# Altium schematic symbol library BOTTOM_BOARD.SchLib: 1 symbol
Pins are listed as number, name and electrical type; pins without a type are passive.

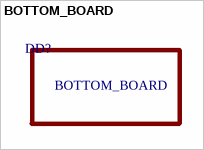
[diagram p0: symbol BOTTOM_BOARD]

## BOTTOM_BOARD
designator DD?
footprint BOTTOM_BOARD